# Altium integrated library LM7805.IntLib: 1 symbol
Pins are listed as number, name and electrical type; pins without a type are passive.

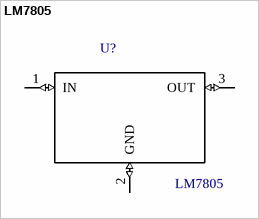
[diagram p0: symbol LM7805]

## LM7805
designator U?
Linear Voltage Regulator IC 1 Output 1.5A DDPAK/TO-263-3; MF: Texas Instruments; Price: None; MP: LM7805; Package: TO-220 Texas Instruments; SnapEDA_Link: https://www.snapeda.com/parts/LM7805/Texas%20Instruments/view-part/2302466/?ref=snap; Availability: Unavailable; Value: *
footprint *TO220
pins: 1 IN (io), 2 GND (io), 3 OUT (io)